# Altium schematic symbol library CAN_Module.SchLib: 8 symbols
Pins are listed as number, name and electrical type; pins without a type are passive.

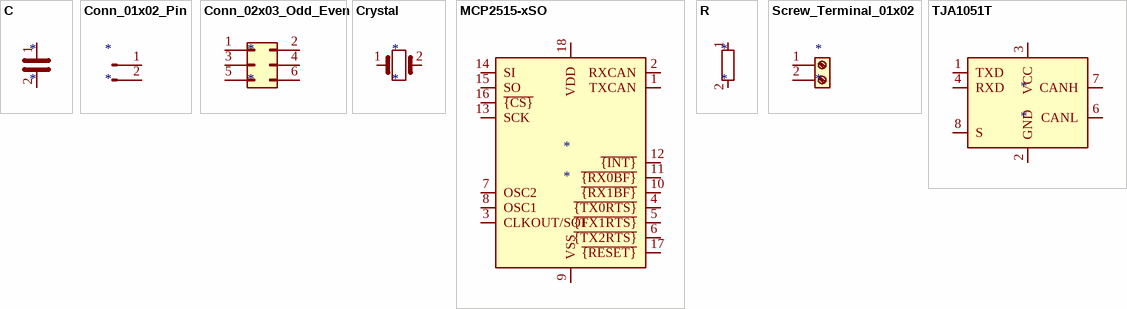
[diagram p0: symbols C to TJA1051T]

## C
designator *
pins: 1, 2

## Conn_01x02_Pin
designator *
pins: 1 Pin_1, 2 Pin_2

## Conn_02x03_Odd_Even
designator *
pins: 1 Pin_1, 2 Pin_2, 3 Pin_3, 4 Pin_4, 5 Pin_5, 6 Pin_6

## Crystal
designator *
pins: 1, 2

## MCP2515-xSO
designator *
pins: 1 TXCAN, 2 RXCAN, 3 CLKOUT/SOF, 4 ~{{TX0RTS}}, 5 ~{{TX1RTS}}, 6 ~{{TX2RTS}}, 7 OSC2, 8 OSC1, 9 VSS, 10 ~{{RX1BF}}, 11 ~{{RX0BF}}, 12 ~{{INT}}, 13 SCK, 14 SI, 15 SO, 16 ~{{CS}}, 17 ~{{RESET}}, 18 VDD

## R
designator *
pins: 1, 2

## Screw_Terminal_01x02
designator *
pins: 1 Pin_1, 2 Pin_2

## TJA1051T
designator *
pins: 1 TXD, 2 GND, 3 VCC, 4 RXD, 5 NC hidden, 6 CANL, 7 CANH, 8 S